# EAGLE library part MPU-6050-A (library lightsaber)
Check availability <https://pricing.snapeda.com/parts/MPU-6050-A/TDK%20InvenSense/view-part?ref=eda>
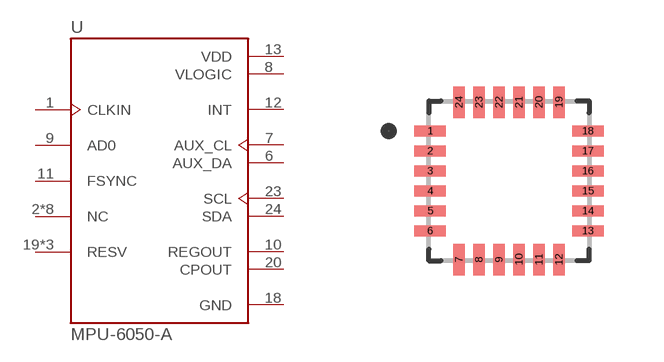
[diagram p1: symbol with the pads of QFN50P400X400X95-24N; footprint QFN50P400X400X95-24N]

Designator prefix U

## MPU-6050-A (AVAILABILITY: In Stock; CHECK_PRICES: https://www.snapeda.com/parts/MPU-6050-A/TDK/view-part/?ref=eda; DESCRIPTION: MOTION TRACKING DEVICE; MF: TDK InvenSense; MP: MPU-6050-A; PACKAGE: QFN-24 InvenSense; PRICE: None; SNAPEDA_LINK: https://www.snapeda.com/parts/MPU-6050-A/TDK/view-part/?ref=snap)  [QFN50P400X400X95-24N]
1  CLKIN  in
2  NC  pas
3  NC  pas
4  NC  pas
5  NC  pas
6  AUX_DA
7  AUX_CL  out
8  VLOGIC  pwr
9  AD0  in
10  REGOUT  pas
11  FSYNC  in
12  INT  out
13  VDD  pwr
14  NC  pas
15  NC  pas
16  NC  pas
17  NC  pas
18  GND  pwr
19  RESV  nc
20  CPOUT  pas
21  RESV  nc
22  RESV  nc
23  SCL  in
24  SDA

## Footprint QFN50P400X400X95-24N (pad centres in mm)
smd 0.79 x 0.28: 1 -1.97,1.25; 2 -1.97,0.75; 3 -1.97,0.25; 4 -1.97,-0.25; 5 -1.97,-0.75; 6 -1.97,-1.25; 13 1.97,-1.25; 14 1.97,-0.75; 15 1.97,-0.25; 16 1.97,0.25; 17 1.97,0.75; 18 1.97,1.25
smd 0.28 x 0.79: 7 -1.25,-1.97; 8 -0.75,-1.97; 9 -0.25,-1.97; 10 0.25,-1.97; 11 0.75,-1.97; 12 1.25,-1.97; 19 1.25,1.97; 20 0.75,1.97; 21 0.25,1.97; 22 -0.25,1.97; 23 -0.75,1.97; 24 -1.25,1.97